# EAGLE library part UP501 (library KwanSystems)
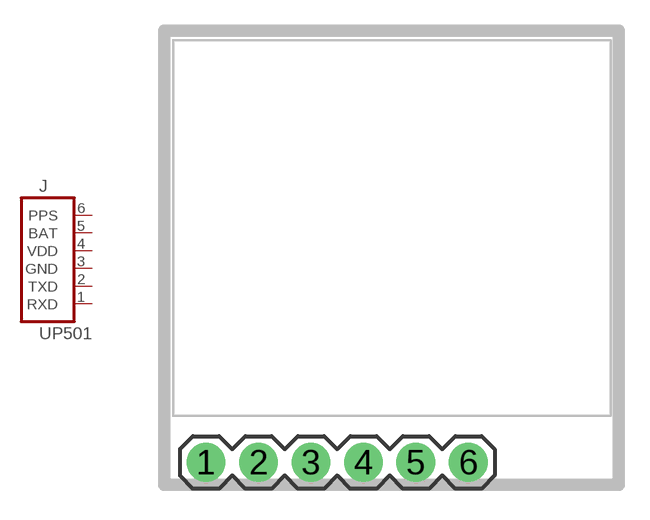
[diagram p14: symbol with the pads of UP501; footprint UP501]

Designator prefix J

## UP501  [UP501]
1  RXD  pas
2  TXD  pas
3  GND  pas
4  VDD  pas
5  BAT  pas
6  PPS  pas

## Footprint UP501 (pad centres in mm)
drill 1.016 pad 1.88: 1 0,0; 2 2.54,0; 3 5.08,0; 4 7.62,0; 5 10.16,0; 6 12.7,0